# EAGLE library part A053-603.6M2 (library saw-filters-narrowband)
A053-603.6M2 Параметр Ед. изм. Мин. значение Тип. значение Макс. значение Центральная частота МГц 602.8 603.6 604.4 Минимальное вносимое затухание дБ - 1.9 2.2 Полоса среза по уровню -2 дБ МГц 9 10 - Полоса среза по уровню -35 дБ МГц - 44 - Неравномерность АЧХ дБ - 0.6 1 Групповое время задержки нс - 20 - Гарантированное затухание дБ - 60 - Температурный диапазон °C -55 22 +85 Материал подложки - - Танталат лития 36 -
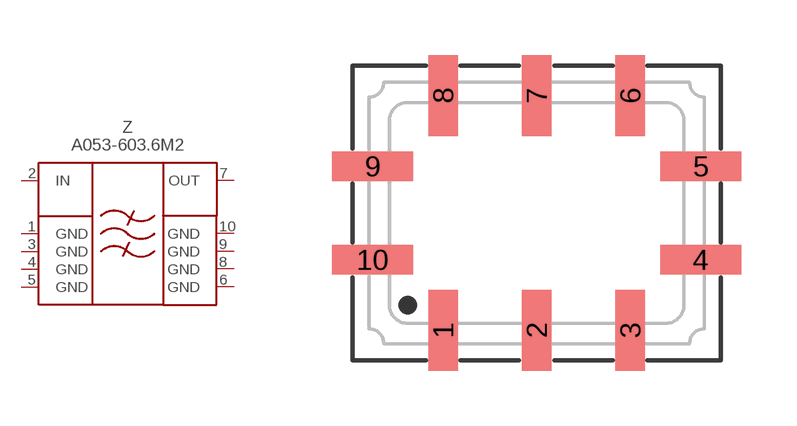
[diagram p175: symbol with the pads of QCC10-1; footprint QCC10-1]

Designator prefix Z

## A053-603.6M2  [QCC10-1]
1  GND  pwr
2  IN  in
3  GND  pwr
4  GND  pwr
5  GND  pwr
6  GND  pwr
7  OUT  out
8  GND  pwr
9  GND  pwr
10  GND  pwr

## Footprint QCC10-1 (pad centres in mm)
smd 0.8 x 2.2: 1 -2.54,-3.185; 2 0,-3.185; 3 2.54,-3.185; 6 2.54,3.185; 7 0,3.185; 8 -2.54,3.185
smd 2.2 x 0.8: 4 4.455,-1.27; 5 4.455,1.27; 9 -4.455,1.27; 10 -4.455,-1.27